# EAGLE library part FPC-53WAY (library pimoroni-fpc)
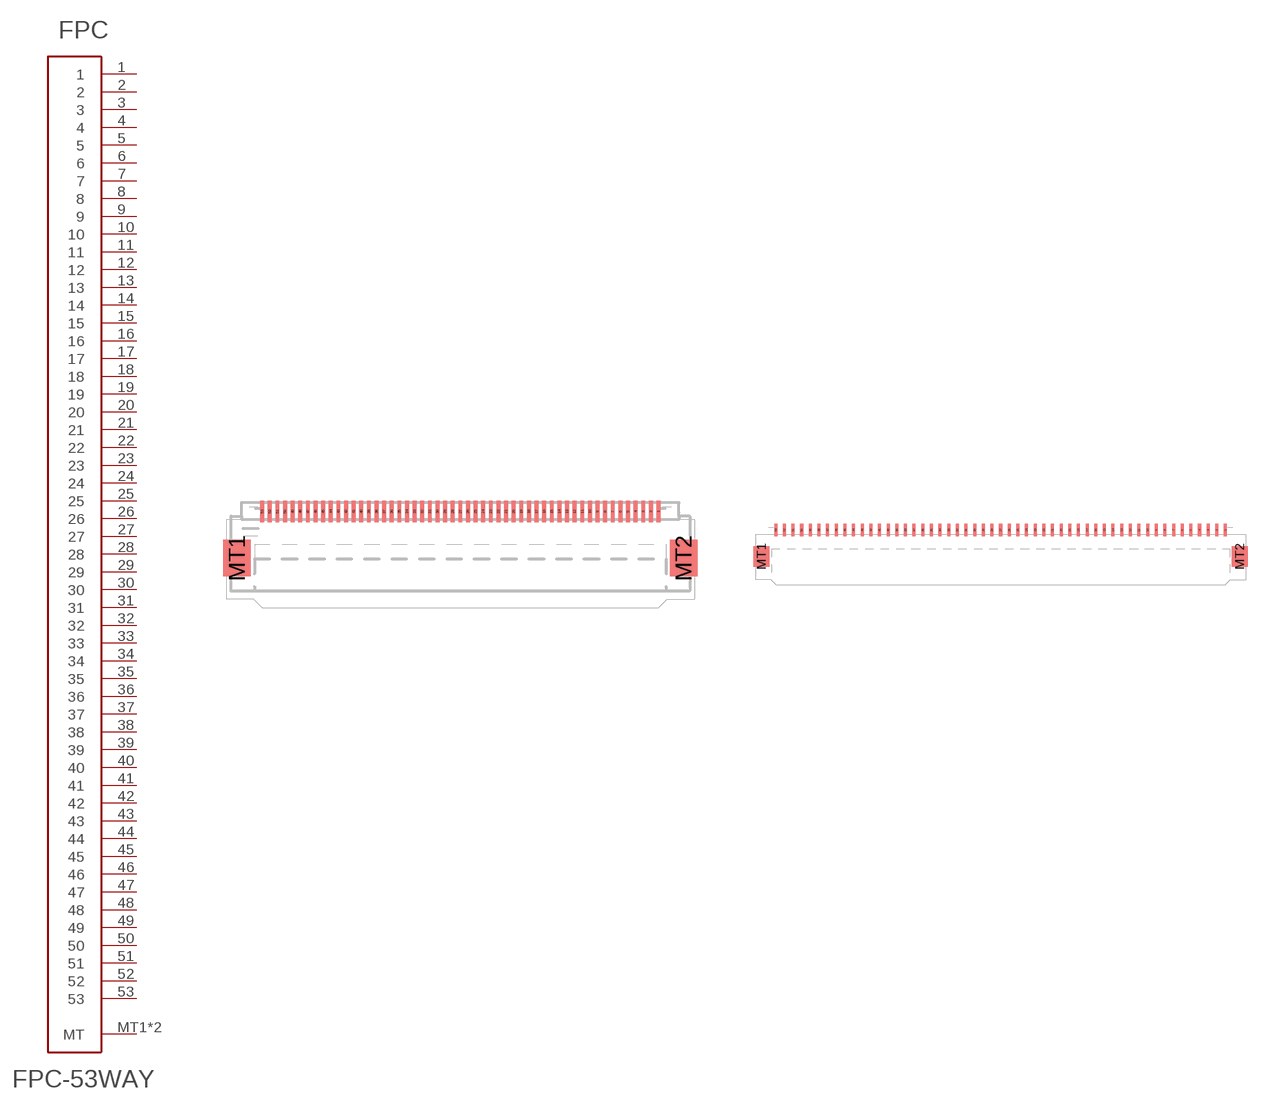
[diagram p48: symbol with the pads of FPC-0.5MM-53WAY; footprints FPC-0.5MM-53WAY, FPC-1.0MM-53WAY]

Designator prefix FPC

## FPC-53WAY0.5  [FPC-0.5MM-53WAY]
1  1
2  2
3  3
4  4
5  5
6  6
7  7
8  8
9  9
10  10
11  11
12  12
13  13
14  14
15  15
16  16
17  17
18  18
19  19
20  20
21  21
22  22
23  23
24  24
25  25
26  26
27  27
28  28
29  29
30  30
31  31
32  32
33  33
34  34
35  35
36  36
37  37
38  38
39  39
40  40
41  41
42  42
43  43
44  44
45  45
46  46
47  47
48  48
49  49
50  50
51  51
52  52
53  53
MT1  MT
MT2  MT

## FPC-53WAY1.0  [FPC-1.0MM-53WAY]
Pads as for FPC-0.5MM-53WAY

## Footprint FPC-0.5MM-53WAY (pad centres in mm)
smd 0.25 x 1.4: 1 13,0.7; 2 12.5,0.7; 3 12,0.7; 4 11.5,0.7; 5 11,0.7; 6 10.5,0.7; 7 10,0.7; 8 9.5,0.7; 9 9,0.7; 10 8.5,0.7; 11 8,0.7; 12 7.5,0.7; 13 7,0.7; 14 6.5,0.7; 15 6,0.7; 16 5.5,0.7; 17 5,0.7; 18 4.5,0.7; 19 4,0.7; 20 3.5,0.7; 21 3,0.7; 22 2.5,0.7; 23 2,0.7; 24 1.5,0.7; 25 1,0.7; 26 0.5,0.7; 27 0,0.7; 28 -0.5,0.7; 29 -1,0.7; 30 -1.5,0.7; 31 -2,0.7; 32 -2.5,0.7; 33 -3,0.7; 34 -3.5,0.7; 35 -4,0.7; 36 -4.5,0.7; 37 -5,0.7; 38 -5.5,0.7; 39 -6,0.7; 40 -6.5,0.7; 41 -7,0.7; 42 -7.5,0.7; 43 -8,0.7; 44 -8.5,0.7; 45 -9,0.7; 46 -9.5,0.7; 47 -10,0.7; 48 -10.5,0.7; 49 -11,0.7; 50 -11.5,0.7; 51 -12,0.7; 52 -12.5,0.7; 53 -13,0.7
smd 1.8 x 2.4: MT1 -14.65,-2.35; MT2 14.65,-2.35

## Footprint FPC-1.0MM-53WAY (pad centres in mm)
smd 0.35 x 1.4: 1 26,0.7; 2 25,0.7; 3 24,0.7; 4 23,0.7; 5 22,0.7; 6 21,0.7; 7 20,0.7; 8 19,0.7; 9 18,0.7; 10 17,0.7; 11 16,0.7; 12 15,0.7; 13 14,0.7; 14 13,0.7; 15 12,0.7; 16 11,0.7; 17 10,0.7; 18 9,0.7; 19 8,0.7; 20 7,0.7; 21 6,0.7; 22 5,0.7; 23 4,0.7; 24 3,0.7; 25 2,0.7; 26 1,0.7; 27 0,0.7; 28 -1,0.7; 29 -2,0.7; 30 -3,0.7; 31 -4,0.7; 32 -5,0.7; 33 -6,0.7; 34 -7,0.7; 35 -8,0.7; 36 -9,0.7; 37 -10,0.7; 38 -11,0.7; 39 -12,0.7; 40 -13,0.7; 41 -14,0.7; 42 -15,0.7; 43 -16,0.7; 44 -17,0.7; 45 -18,0.7; 46 -19,0.7; 47 -20,0.7; 48 -21,0.7; 49 -22,0.7; 50 -23,0.7; 51 -24,0.7; 52 -25,0.7; 53 -26,0.7
smd 1.8 x 2.4: MT1 -27.65,-2.35; MT2 27.65,-2.35